# EAGLE library part TC1428 (library ads)
Microchip TC1428 dual inverting/non-inverting 1.2A MOSFET driver
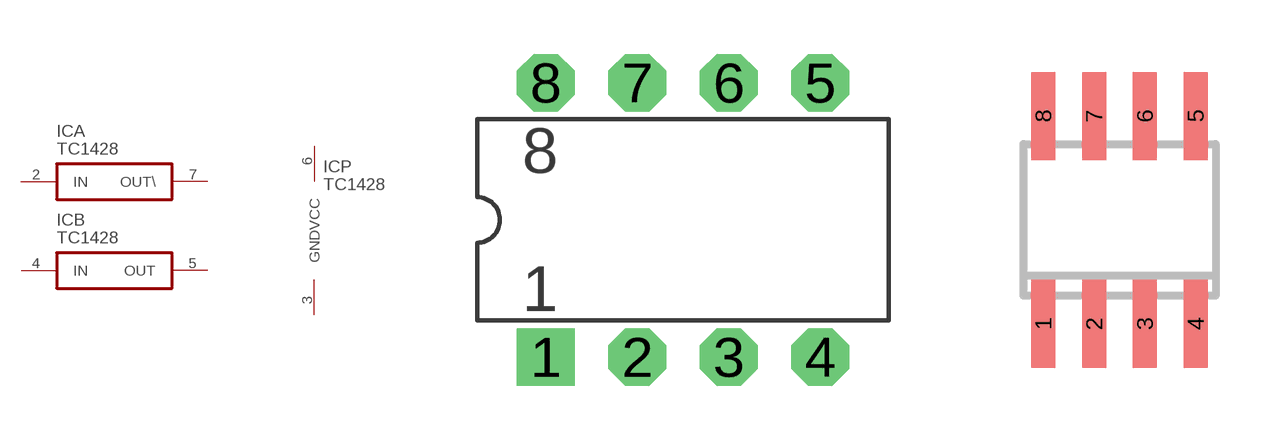
[diagram p25: symbol with the pads of DIP08; footprints DIP08, SO08]

Designator prefix IC; gates A=TC4426 B=TC4427 P=POWER2

## TC1428CPA  [DIP08]
2  A:IN  in
3  P:GND  pwr
4  B:IN  in
5  B:OUT  pas
6  P:VCC  pwr
7  A:OUT\  pas

## TC1428COA  [SO08]
Pads as for DIP08

## Footprint DIP08 (pad centres in mm)
drill 0.813 pad 1.6 square: 1 1.27,-3.81
drill 0.813 pad 1.6 octagon: 2 3.81,-3.81; 3 6.35,-3.81; 4 8.89,-3.81; 5 8.89,3.81; 6 6.35,3.81; 7 3.81,3.81; 8 1.27,3.81

## Footprint SO08 (pad centres in mm)
SMALL OUTLINE INTEGRATED CIRCUIT body 3.9 mm/JEDEC MS-012AA
smd 0.6 x 2.2: 1 -1.905,-2.6; 2 -0.635,-2.6; 3 0.635,-2.6; 4 1.905,-2.6; 5 1.905,2.6; 6 0.635,2.6; 7 -0.635,2.6; 8 -1.905,2.6